# Altium footprint library lprs.PCBLIB: 2 footprints
Each footprint in its own frame and in the unit in brackets; x right, y up, seen from the top. Pads: shape width x height; smd on the part's side, far side on the other; paste and mask are expansions set on the pad; w line width, h text height; cw(c..) or ccw(c..) is an arc to the next point about the centre after c.
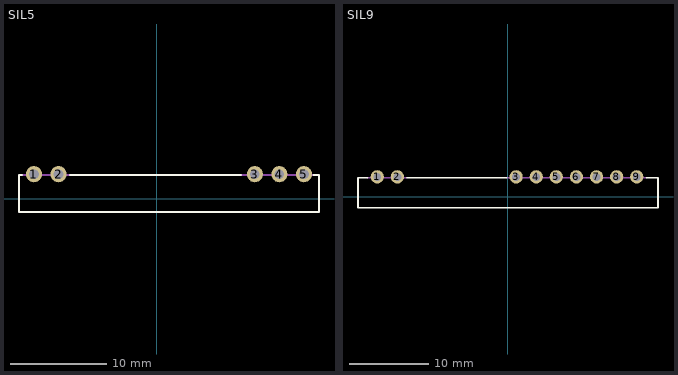
[diagram p0: the footprints below, top view; thin cyan lines are the x and y axes]

## SIL5 [mil]
pads (5):
  round 66 hole 39.37: 1(-500,100) 2(-400,100) 3(400,100) 4(500,100) 5(600,100)
Top Overlay:
  lines w8: -548.62,96.06 -561.02,96.06 -561.02,-53.54 661.42,-53.54 661.42,96.06 638.19,96.06 ; -353.74,96.06 343.31,96.06
Mechanical 16:
  lines w8: -548.62,96.06 -353.74,96.06 ; 343.31,96.06 638.19,96.06

## SIL9 [mil]
pads (9):
  round 66 hole 39.37: 1(-650,100) 2(-550,100) 3(40.55,100) 4(140.55,100) 5(240.55,100) 6(340.55,100) 7(440.55,100) 8(540.55,100) 9(640.55,100)
Top Overlay:
  lines w8: -698.62,96.06 -745.87,96.06 -745.87,-53.54 746.26,-53.54 746.26,96.06 688.19,96.06 ; -503.74,96.06 -6.69,96.06
Mechanical 16:
  lines w8: -698.62,96.06 -503.74,96.06 ; -6.69,96.06 688.19,96.06